# Altium schematic symbol library ATCA-08-750M-V.SchLib: 1 symbol
Pins are listed as number, name and electrical type; pins without a type are passive.

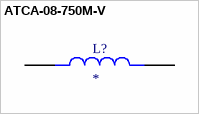
[diagram p0: symbol ATCA-08-750M-V]

## ATCA-08-750M-V
designator L?
MP: ATCA-08-750M-V; Value: *; Package: None; Availability: Unavailable; Price: None
footprint IND_ATCA-08-750M-V
footprint IND_ATCA-08-750M-V
pins: 1, 2